# Altium schematic symbol library Schlib1.SchLib: 54 symbols
Pins are listed as number, name and electrical type; pins without a type are passive.

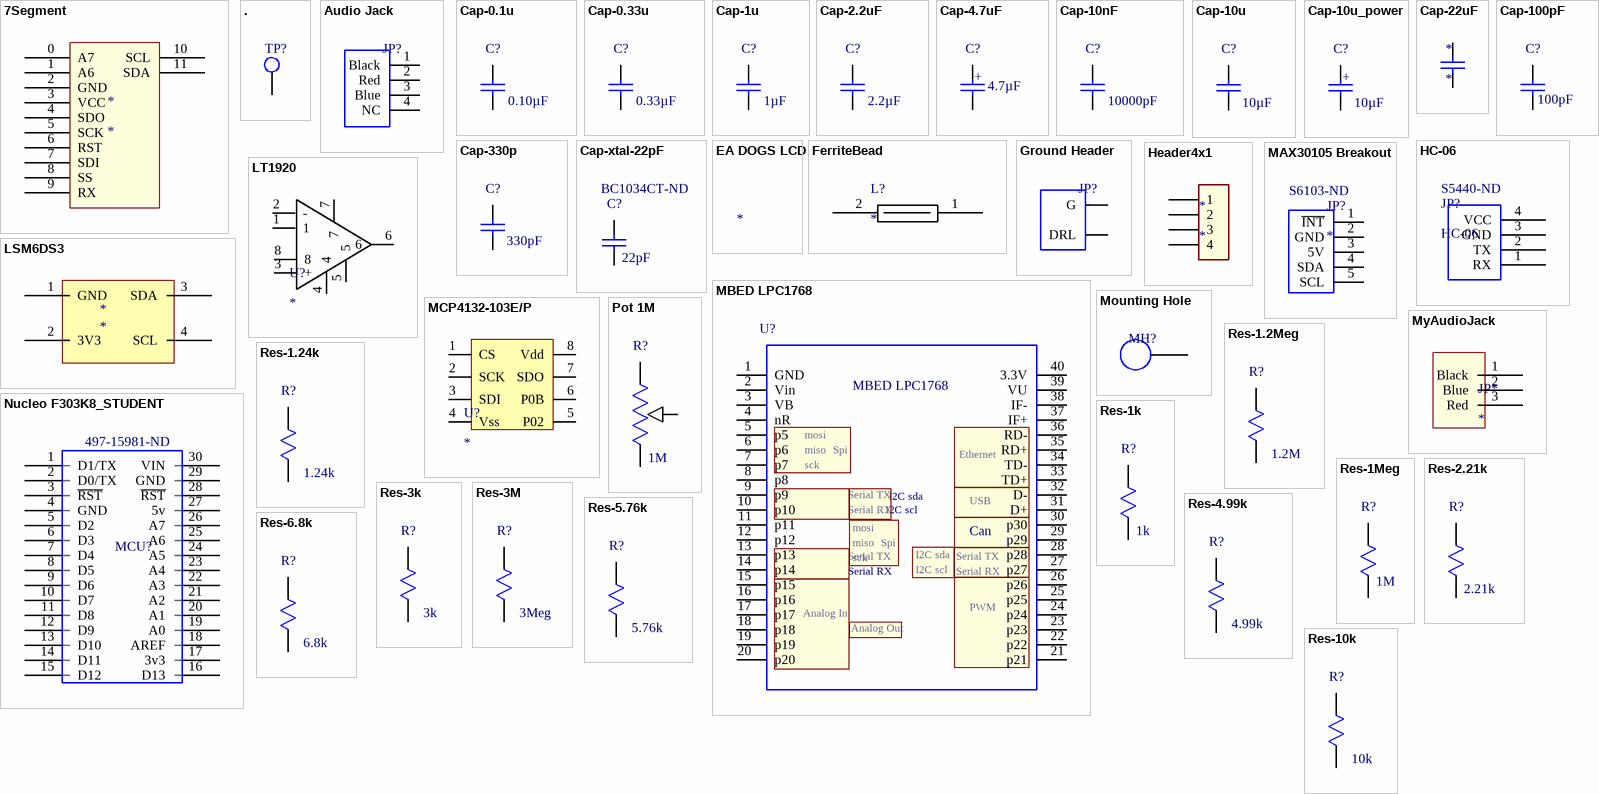
[diagram p0: symbols 7Segment to Res-10k]

## 7Segment
designator *
footprint 7SegmentDisplay
pins: 0 A7, 1 A6, 2 GND, 3 VCC, 4 SDO, 5 SCK, 6 RST, 7 SDI, 8 SS, 9 RX, 10 SCL, 11 SDA

## .
designator TP?  (value not drawn)
Manufacturer: Harwin Inc.; Manufacturer Part Number: S1751-46; Supplier 1: Digi-Key; RoHS: RoHS Compliant; Category: Test and Measurement; Stock 1: 4702; Pricing 1: 1=0.23, 10=0.218, 25=0.1856, 50=0.1624, 100=0.1508, 250=0.1334, 500=0.1276, 1000=0.1044, 2500=0.0957 (USD); Packaging: Bulk; Part Status: Active; Type: PC Test Point; Terminal: 0.128" x 0.065" x 0.079" (3.25mm x 1.65mm x 2.00mm) Brass, Tin Plated; Mounting Type: Surface Mount; Material: Copper Alloy; Color: Natural; ComponentLink1URL: http://cdn.harwin.com/pdfs/S1751.pdf; ComponentLink1Description: http://cdn.harwin.com/pdfs/S1751.pdf; Supplier Part Number 1: 952-3024-ND
footprint TestPoint
pins: 1 TP

## Audio Jack
designator JP?
Manufacturer: CUI Inc.; Manufacturer Part Number: SJ-3524-SMT-TR; Connector Type: Phone Jack; Gender: Female; Signal Lines: Stereo; Industry Recognized Mating Diameter: 3.50mm (0.141", 1/8", Mini Plug) - Headphone; Actual Diameter: 0.142" (3.60mm); Number of Positions/Contacts: 3 Conductors, 4 Contacts; Internal Switch(s): Single Switch; Shielding: Unshielded; Voltage - Rated: 12VDC; Current Rating: 1A; Mating Length/Depth: 0.551" (14.00mm); Body Color: Black; Includes: 1 pc - 1 Connector; Supplier 1: Digi-Key; RoHS: RoHS Compliant; Category: Connectors, Interconnects; Stock 1: 106742; Pricing 1: 1=1.37, 10=1.063, 100=0.811, 500=0.64746 (USD); Packaging: Cut Tape (CT); Mounting Type: Surface Mount, Right Angle; Termination: Solder; Features: Board Guide; Insulation Color: -; Contact Material - Plating: Silver; Body Material: -; ComponentLink1URL: http://www.cui.com/product/resource/digikeypdf/sj-352x-smt_series.pdf; ComponentLink1Description: http://www.cui.com/product/resource/digikeypdf/sj-352x-smt_series.pdf; Supplier Part Number 1: CP-3524SJCT-ND
footprint Audio Jack (2092-STX-3000-ND)
pins: 1 Black, 2 Red, 3 Blue, 4 NC

## Cap-0.1u
designator C?  Capacitance: 0.10µF  (hidden comment: *)
Manufacturer: Vishay BC Components; Manufacturer Part Number: K104Z15Y5VF5TL2; Tolerance: -20%, +80%; Voltage - Rated: 50V; Temperature Coefficient: Y5V (F); Supplier 1: Digi-Key; RoHS: RoHS Compliant; Category: Capacitors; Stock 1: 43995; Pricing 1: 1=0.21, 10=0.147, 50=0.0846, 100=0.0698, 250=0.0588, 500=0.04924, 1000=0.04043 (USD); Packaging: Cut Tape (CT); Mounting Type: Through Hole; Operating Temperature: -30°C ~ 85°C; Applications: General Purpose; Ratings: -; Package / Case: Radial; Size / Dimension: 0.157" L x 0.098" W (4.00mm x 2.50mm); Height - Seated (Max): 0.220" (5.58mm); Thickness (Max): -; Lead Spacing: 0.098" (2.50mm); Features: -; Lead Style: Straight; ComponentLink1URL: http://www.vishay.com/docs/45171/kseries.pdf; ComponentLink1Description: http://www.vishay.com/docs/45171/kseries.pdf; Supplier Part Number 1: BC1160CT-ND
footprint Capacitor (200 mil)
pins: 1, 2

## Cap-0.33u
designator C?  Capacitance: 0.33µF  (hidden comment: *)
Manufacturer: TDK Corporation; Manufacturer Part Number: FK24X7R1H334K; Tolerance: ±10%; Voltage - Rated: 50V; Temperature Coefficient: X7R; Supplier 1: Digi-Key; RoHS: RoHS Compliant; Category: Capacitors; Stock 1: 11085; Pricing 1: 1=0.32, 10=0.223, 100=0.1335, 250=0.11124, 500=0.10012, 1000=0.08455, 5000=0.07565, 10000=0.0712, 25000=0.06675 (USD); Packaging: Bulk; Mounting Type: Through Hole; Operating Temperature: -55°C ~ 125°C; Applications: General Purpose; Ratings: -; Package / Case: Radial; Size / Dimension: 0.217" L x 0.177" W (5.50mm x 4.50mm); Height - Seated (Max): 0.217" (5.50mm); Thickness (Max): -; Lead Spacing: 0.197" (5.00mm); Features: -; Lead Style: Formed Leads - Kinked; ComponentLink1URL: https://product.tdk.com/info/en/documents/catalog/leadmlcc_conventional_fk_en.pdf; ComponentLink1Description: https://product.tdk.com/info/en/documents/catalog/leadmlcc_conventional_fk_en.pdf; Supplier Part Number 1: 445-5263-ND
footprint Capacitor (200 mil)
pins: 1, 2

## Cap-1u
designator C?  Capacitance: 1µF  (hidden comment: *)
Manufacturer: TDK Corporation; Manufacturer Part Number: FK18X5R1E105K; Tolerance: ±10%; Voltage - Rated: 25V; Temperature Coefficient: X5R; Supplier 1: Digi-Key; RoHS: RoHS Compliant; Category: Capacitors; Stock 1: 4927; Pricing 1: 1=0.34, 10=0.233, 100=0.1323, 250=0.10504, 500=0.09336, 1000=0.08169, 5000=0.07197, 10000=0.06808, 25000=0.06224 (USD); Packaging: Bulk; Part Status: Active; Operating Temperature: -55°C ~ 85°C; Features: -; Ratings: -; Applications: General Purpose; Failure Rate: -; Mounting Type: Through Hole; Package / Case: Radial; Size / Dimension: 0.157" L x 0.098" W (4.00mm x 2.50mm); Height - Seated (Max): 0.217" (5.50mm); Thickness (Max): -; Lead Spacing: 0.098" (2.50mm); Lead Style: Formed Leads - Kinked; ComponentLink1URL: https://product.tdk.com/info/en/documents/catalog/leadmlcc_conventional_fk_en.pdf; ComponentLink1Description: https://product.tdk.com/info/en/documents/catalog/leadmlcc_conventional_fk_en.pdf; Supplier Part Number 1: 445-8410-ND
footprint Capacitor (200 mil)
pins: 1, 2

## Cap-2.2uF
designator C?  Capacitance: 2.2µF  (hidden comment: *)
Manufacturer: TDK Corporation; Manufacturer Part Number: FK20X7R2A225K; Tolerance: ±10%; Voltage - Rated: 100V; Temperature Coefficient: X7R; Supplier 1: Digi-Key; RoHS: RoHS Compliant; Category: Capacitors; Stock 1: 11645; Pricing 1: 1=0.95, 10=0.722, 100=0.5168, 250=0.46684, 500=0.40014, 1000=0.34457, 5000=0.30566, 10000=0.29455, 25000=0.28343 (USD); Packaging: Bulk; Mounting Type: Through Hole; Operating Temperature: -55°C ~ 125°C; Applications: General Purpose; Ratings: -; Package / Case: Radial; Size / Dimension: 0.217" L x 0.157" W (5.50mm x 4.00mm); Height - Seated (Max): 0.276" (7.00mm); Thickness (Max): -; Lead Spacing: 0.197" (5.00mm); Features: -; Lead Style: Formed Leads - Kinked; ComponentLink1URL: https://product.tdk.com/info/en/documents/catalog/leadmlcc_conventional_fk_en.pdf; ComponentLink1Description: https://product.tdk.com/info/en/documents/catalog/leadmlcc_conventional_fk_en.pdf; Supplier Part Number 1: 445-8463-ND
footprint Capacitor (200 mil)
pins: 1, 2

## Cap-4.7uF
designator C?  Capacitance: 4.7µF  (hidden comment: *)
Manufacturer: AVX Corporation; Manufacturer Part Number: TAP475K016SRW; Manufacturer Size Code: B; Tolerance: ±10%; Voltage - Rated: 16V; Type: Conformal Coated; ESR (Equivalent Series Resistance): 5 Ohm; Lifetime @ Temp.: 1000 Hrs @ 85°C; Supplier 1: Digi-Key; RoHS: RoHS Compliant; Category: Capacitors; Stock 1: 953; Pricing 1: 1=0.73, 10=0.54, 25=0.4628, 50=0.4318, 100=0.3701, 250=0.33928, 500=0.29302 (USD); Packaging: Cut Tape (CT); Part Status: Active; Operating Temperature: -55°C ~ 125°C; Mounting Type: Through Hole; Package / Case: Radial; Size / Dimension: 0.177" Dia (4.50mm); Height - Seated (Max): 0.295" (7.50mm); Lead Spacing: 0.098" (2.50mm); Features: General Purpose; Failure Rate: -; ComponentLink1URL: http://datasheets.avx.com/tap.pdf; ComponentLink1Description: http://datasheets.avx.com/tap.pdf; Supplier Part Number 1: 478-7381-1-ND
footprint Capacitor - Polarized (200 mil)
pins: 1, 2
text: +

## Cap-10nF
designator C?  Capacitance: 10000pF  (hidden comment: *)
Manufacturer: KEMET; Manufacturer Part Number: C317C103K5R5TA; Tolerance: ±10%; Voltage - Rated: 50V; Temperature Coefficient: X7R; Supplier 1: Digi-Key; Supplier Part Number 1: 399-4206-ND; RoHS: RoHS Compliant; Category: Capacitors; Stock 1: 23003; Pricing 1: 1=0.24, 10=0.162, 25=0.1296, 50=0.108, 100=0.0918, 250=0.07292, 500=0.0648, 1000=0.0567, 5000=0.04995 (USD); Packaging: Bulk; Part Status: Active; Operating Temperature: -55°C ~ 125°C; Features: -; Ratings: -; Applications: General Purpose; Failure Rate: -; Mounting Type: Through Hole; Package / Case: Radial; Size / Dimension: 0.150" L x 0.120" W (3.81mm x 3.05mm); Height - Seated (Max): 0.230" (5.84mm); Thickness (Max): -; Lead Spacing: 0.200" (5.08mm); Lead Style: Formed Leads; ComponentLink1URL: http://www.kemet.com/docfinder?Partnumber=C317C103K5R5TA; ComponentLink1Description: http://www.kemet.com/docfinder?Partnumber=C317C103K5R5TA
footprint Capacitor (200 mil)
pins: 1, 2

## Cap-10u
designator C?  Capacitance: 10µF  (hidden comment: *)
Manufacturer: TDK Corporation; Manufacturer Part Number: FK26X7R1C106K; Tolerance: ±10%; Voltage - Rated: 16V; Temperature Coefficient: X7R; Supplier 1: Digi-Key; RoHS: RoHS Compliant; Category: Capacitors; Stock 1: 7933; Pricing 1: 1=0.45, 10=0.319, 100=0.2101, 250=0.17896, 500=0.1556, 1000=0.13226, 5000=0.1167, 10000=0.10892, 25000=0.10503 (USD); Packaging: Bulk; Mounting Type: Through Hole; Operating Temperature: -55°C ~ 125°C; Applications: General Purpose; Ratings: -; Package / Case: Radial; Size / Dimension: 0.217" L x 0.138" W (5.50mm x 3.50mm); Height - Seated (Max): 0.236" (6.00mm); Thickness (Max): -; Lead Spacing: 0.197" (5.00mm); Features: -; Lead Style: Formed Leads - Kinked; ComponentLink1URL: https://product.tdk.com/info/en/documents/catalog/leadmlcc_conventional_fk_en.pdf; ComponentLink1Description: https://product.tdk.com/info/en/documents/catalog/leadmlcc_conventional_fk_en.pdf; Supplier Part Number 1: 445-8549-ND
footprint Capacitor (200 mil)
pins: 1, 2

## Cap-10u_power
designator C?  Capacitance: 10µF  (hidden comment: *)
Manufacturer: TDK Corporation; Manufacturer Part Number: FK26X7R1C106K; Manufacturer Size Code: D; Tolerance: ±10%; Voltage - Rated: 16V; Temperature Coefficient: X7R; ESR (Equivalent Series Resistance): 3.2 Ohm; Type: Conformal Coated; Lifetime @ Temp.: 1000 Hrs @ 85°C; RoHS: RoHS Compliant; Category: Capacitors; Packaging: Bulk; Mounting Type: Through Hole; Operating Temperature: -55°C ~ 125°C; Applications: General Purpose; Ratings: -; Package / Case: Radial; Size / Dimension: 0.217" L x 0.138" W (5.50mm x 3.50mm); Height - Seated (Max): 0.236" (6.00mm); Thickness (Max): -; Lead Spacing: 0.197" (5.00mm); Features: -; Lead Style: Formed Leads - Kinked; ComponentLink1URL: https://product.tdk.com/info/en/documents/catalog/leadmlcc_conventional_fk_en.pdf; ComponentLink1Description: https://product.tdk.com/info/en/documents/catalog/leadmlcc_conventional_fk_en.pdf; Supplier 1: Digi-Key; Stock 1: 3748; Pricing 1: 1=1.07, 10=0.893, 100=0.57, 250=0.475, 500=0.4275 (USD); ComponentLink2URL: http://datasheets.avx.com/tap.pdf; ComponentLink2Description: http://datasheets.avx.com/tap.pdf; Supplier Part Number 1: 478-8959-1-ND
footprint Capacitor - Polarized (200 mil)
pins: 1, 2
text: +

## Cap-22uF
designator *
footprint Capacitor - Polarized (200 mil)
pins: 1, 2

## Cap-100pF
designator C?  (value not drawn)
Supplier 1: Digi-Key
footprint Capacitor (200 mil)
pins: 1, 2
text: 100pF

## Cap-330p
designator C?  Capacitance: 330pF  (hidden comment: *)
Manufacturer: Vishay BC Components; Manufacturer Part Number: K331J15C0GF5TL2; Tolerance: ±5%; Voltage - Rated: 50V; Temperature Coefficient: C0G, NP0; Supplier 1: Digi-Key; RoHS: RoHS Compliant; Category: Capacitors; Stock 1: 24510; Pricing 1: 1=0.24, 10=0.2, 50=0.1126, 100=0.1, 250=0.075, 500=0.06626, 1000=0.05875 (USD); Packaging: Cut Tape (CT); Mounting Type: Through Hole; Operating Temperature: -55°C ~ 125°C; Applications: General Purpose; Ratings: -; Package / Case: Radial; Size / Dimension: 0.157" L x 0.098" W (4.00mm x 2.50mm); Height - Seated (Max): 0.220" (5.58mm); Thickness (Max): -; Lead Spacing: 0.098" (2.50mm); Features: -; Lead Style: Straight; ComponentLink1URL: http://www.vishay.com/docs/45171/kseries.pdf; ComponentLink1Description: http://www.vishay.com/docs/45171/kseries.pdf; Supplier Part Number 1: BC1019CT-ND
footprint Capacitor (200 mil)
pins: 1, 2

## Cap-xtal-22pF
designator C?  Capacitor: 22pF  Supplier Part Number 1: BC1034CT-ND  (hidden comment: *)
Manufacturer: Vishay BC Components; Manufacturer Part Number: K220J15C0GF5TH5; Tolerance: ±5%; Voltage - Rated: 50V; Temperature Coefficient: C0G, NP0; Supplier 1: Digi-Key; RoHS: RoHS Compliant; Category: Capacitors; Stock 1: 18988; Pricing 1: 1=0.2, 10=0.139, 50=0.084, 100=0.0706, 250=0.05712, 500=0.0504, 1000=0.04284 (USD); Packaging: Cut Tape (CT); Capacitance: 22pF; Mounting Type: Through Hole; Operating Temperature: -55°C ~ 125°C; Applications: General Purpose; Ratings: -; Package / Case: Radial; Size / Dimension: 0.157" L x 0.098" W (4.00mm x 2.50mm); Height - Seated (Max): 0.257" (6.54mm); Thickness (Max): -; Lead Spacing: 0.197" (5.00mm); Features: -; Lead Style: Formed Leads; ComponentLink1URL: http://www.vishay.com/docs/45171/kseries.pdf; ComponentLink1Description: http://www.vishay.com/docs/45171/kseries.pdf
footprint Capacitor (200 mil)
pins: 1, 2

## EA DOGS LCD
designator ?
footprint EA DOGS102-6

## FerriteBead
designator L?
Manufacturer: Laird-Signal Integrity Products; Manufacturer Part Number: 28L0138-10R-10; Number of Lines: 1; Impedance @ Frequency: 75 Ohm @ 100MHz; Current Rating (Max): 5A; DC Resistance (DCR) (Max): 10 mOhm; Supplier 1: Digi-Key; RoHS: RoHS Compliant; Category: Filters; Stock 1: 25546; Pricing 1: 1=0.1, 10=0.076, 25=0.0684, 50=0.05, 100=0.0433, 250=0.03416, 500=0.02884, 1000=0.02429 (USD); Packaging: Cut Tape (CT); Part Status: Active; Filter Type: -; Ratings: -; Operating Temperature: -; Package / Case: Axial; Mounting Type: Through Hole; Height (Max): -; Size / Dimension: 0.138" Dia x 0.175" L (3.51mm x 4.45mm); ComponentLink1URL: http://media.digikey.com/pdf/Data%20Sheets/Laird%20Technologies/28L0138-10R-10_Dwg.pdf; ComponentLink1Description: http://media.digikey.com/pdf/Data%20Sheets/Laird%20Technologies/28L0138-10R-10_Dwg.pdf; Supplier Part Number 1: 240-2438-1-ND
footprint RESISTOR
pins: 1, 2

## Ground Header
designator JP?  (value not drawn)
Manufacturer: On Shore Technology Inc.; Manufacturer Part Number: OSTTE020104; Number of Levels: 1; Positions Per Level: 2; Pitch: 0.138" (3.50mm); Mating Orientation: Horizontal with Board; Current: 10A; Voltage: 125V; Wire Gauge: 16-26 AWG; Wire Termination: Screw - Leaf Spring, Wire Guard; Clamp Material - Plating: Steel, Stainless; Screw Material - Plating: Steel - Zinc Plated; Torque - Screw: 0.2 Nm (1.7 Lb-In); Screw Thread: M2; Supplier 1: Digi-Key; RoHS: RoHS Compliant; Category: Connectors, Interconnects; Stock 1: 21385; Pricing 1: 1=0.38, 10=0.364, 25=0.312, 50=0.2652, 100=0.2548, 250=0.2288, 500=0.2184, 1000=0.182, 2500=0.1664 (USD); Packaging: Bulk; Part Status: Active; Mounting Type: Through Hole; Features: Interlocking (Side); Color: Black; Operating Temperature: -30°C ~ 105°C; Housing Material: Thermoplastic; Contact Material - Plating: Tin Plated; ComponentLink1URL: http://www.on-shore.com/wp-content/uploads/2015/09/osttexx0164.pdf; ComponentLink1Description: http://www.on-shore.com/wp-content/uploads/2015/09/osttexx0164.pdf; Supplier Part Number 1: ED2740-ND
footprint Ground Header
pins: 1 G, 2 DRL

## HC-06
designator JP?  Supplier Part Number 1: S5440-ND
Manufacturer: Sullins Connector Solutions; Manufacturer Part Number: PPTC041LGBN-RC; Connector Type: Header; Style: Board to Board; Number of Positions: 4; Number of Positions Loaded: All; Pitch - Mating: 0.100" (2.54mm); Contact Length - Post: 0.124" (3.15mm); Material Flammability Rating: UL94 V-0; Current Rating: 3A; Voltage Rating: 250V; Supplier 1: Digi-Key; RoHS: RoHS Compliant; Category: Connectors, Interconnects; Stock 1: 9482; Pricing 1: 1=0.73, 10=0.569, 25=0.5308, 50=0.4826, 100=0.4343, 250=0.36672, 500=0.3474, 1000=0.3088, 2500=0.25669 (USD); Packaging: Bulk; Part Status: Active; Contact Type: Female Socket; Number of Rows: 1; Row Spacing - Mating: -; Mounting Type: Through Hole, Right Angle; Termination: Solder; Fastening Type: Push-Pull; Contact Finish - Mating: Tin; Contact Finish Thickness - Mating: -; Insulation Color: Black; Insulation Height: 0.100" (2.54mm); Operating Temperature: -40°C ~ 105°C; Contact Finish - Post: Tin; Mated Stacking Heights: -; Ingress Protection: -; Features: -; Applications: -; Insulation Material: Polyester; Contact Shape: Square; Contact Material: Phosphor Bronze; Contact Finish Thickness - Post: -; ComponentLink1URL: http://www.sullinscorp.com/drawings/78_P(N)PxCxx1LGBN-RC,_10493-G.pdf; ComponentLink1Description: http://www.sullinscorp.com/drawings/78_P(N)PxCxx1LGBN-RC,_10493-G.pdf
footprint 4 pin header
pins: 1 RX, 2 TX, 3 GND, 4 VCC

## Header4x1
designator *
footprint 4 pin header
pins: 1, 2, 3, 4

## LSM6DS3
designator *
pins: 1 GND, 2 3V3, 3 SDA, 4 SCL

## LT1920
designator U?
Supplier 1: Digi-Key; Supplier Part Number 1: LT1920CN8#PBF-ND
footprint DIP8
pins: 1, 2 -, 3 +, 4, 5, 6, 7, 8

## MAX30105 Breakout
designator JP?  Supplier Part Number 1: S6103-ND
Manufacturer: Sullins Connector Solutions; Manufacturer Part Number: PPTC051LFBN-RC; Connector Type: Header; Style: Board to Board; Number of Positions: 5; Number of Positions Loaded: All; Pitch - Mating: 0.100" (2.54mm); Contact Length - Post: 0.126" (3.20mm); Material Flammability Rating: UL94 V-0; Current Rating: 3A; Voltage Rating: 250V; Supplier 1: Digi-Key; RoHS: RoHS Compliant; Category: Connectors, Interconnects; Stock 1: 12778; Pricing 1: 1=0.62, 10=0.484, 25=0.4512, 50=0.41, 100=0.369, 250=0.3116, 500=0.2952, 1000=0.2624, 2500=0.21812 (USD); Packaging: Bulk; Part Status: Active; Contact Type: Female Socket; Number of Rows: 1; Row Spacing - Mating: -; Mounting Type: Through Hole; Termination: Solder; Fastening Type: Push-Pull; Contact Finish - Mating: Tin; Contact Finish Thickness - Mating: -; Insulation Color: Black; Insulation Height: 0.335" (8.51mm); Operating Temperature: -40°C ~ 105°C; Contact Finish - Post: Tin; Mated Stacking Heights: -; Ingress Protection: -; Features: -; Applications: -; Insulation Material: Polyester; Contact Shape: Square; Contact Material: Phosphor Bronze; Contact Finish Thickness - Post: -; ComponentLink1URL: http://www.sullinscorp.com/drawings/78_P(N)PxCxxxLFBN-RC,_10492-H.pdf; ComponentLink1Description: http://www.sullinscorp.com/drawings/78_P(N)PxCxxxLFBN-RC,_10492-H.pdf
footprint 5 pin header
pins: 1 ~{INT}, 2 GND, 3 5V, 4 SDA, 5 SCL

## MBED LPC1768
designator U?  (value not drawn)
footprint MBED LPC1768
pins: 1 GND, 2 Vin, 3 VB, 4 nR, 5 p5, 6 p6, 7 p7, 8 p8, 9 p9, 10 p10, 11 p11, 12 p12, 13 p13, 14 p14, 15 p15, 16 p16, 17 p17, 18 p18, 19 p19, 20 p20, 21 p21, 22 p22, 23 p23, 24 p24, 25 p25, 26 p26, 27 p27, 28 p28, 29 p29, 30 p30, 31 D+, 32 D-, 33 TD+, 34 TD-, 35 RD+, 36 RD-, 37 IF+, 38 IF-, 39 VU, 40 3.3V
text: mosi; miso; Spi; Ethernet; sck; Serial TX; I2C sda; USB; Serial RX; I2C scl; Can; PWM; Analog In; Analog Out

## MCP4132-103E/P
designator U?
Digital Pot
footprint DIP8
pins: 1 CS, 2 SCK, 3 SDI, 4 Vss, 5 P02, 6 P0B, 7 SDO, 8 Vdd

## Mounting Hole
designator MH?  (value not drawn)
footprint Mounting Hole
pins: 1

## MyAudioJack
designator JP*
pins: 1 Black, 2 Blue, 3 Red

## Nucleo F303K8_STUDENT
designator MCU?  Supplier Part Number 1: 497-15981-ND
Nucleo F303K8; Manufacturer: Sullins Connector Solutions; Manufacturer Part Number: PPTC151LFBN-RC; Connector Type: Header; Style: Board to Board; Number of Positions: 15; Number of Positions Loaded: All; Pitch - Mating: 0.100" (2.54mm); Contact Length - Post: 0.126" (3.20mm); Material Flammability Rating: UL94 V-0; Current Rating: 3A; Voltage Rating: 250V; Evaluation Kit: Yes; Number of Bits: 32; Core Architecture: ARM; RoHS: RoHS Compliant; Category: Connectors, Interconnects; Packaging: Bulk; Part Status: Active; Contact Type: Female Socket; Number of Rows: 1; Row Spacing - Mating: -; Mounting Type: Through Hole; Termination: Solder; Fastening Type: Push-Pull; Contact Finish - Mating: Tin; Contact Finish Thickness - Mating: -; Insulation Color: Black; Insulation Height: 0.335" (8.51mm); Operating Temperature: -40°C ~ 105°C; Contact Finish - Post: Tin; Mated Stacking Heights: -; Ingress Protection: -; Features: -; Applications: -; Insulation Material: Polyester; Contact Shape: Square; Contact Material: Phosphor Bronze; Contact Finish Thickness - Post: -; ComponentLink1URL: http://www.sullinscorp.com/drawings/78_P(N)PxCxxxLFBN-RC,_10492-H.pdf; ComponentLink1Description: http://www.sullinscorp.com/drawings/78_P(N)PxCxxxLFBN-RC,_10492-H.pdf; REACH SVHC: No SVHC; Lead Free: Lead Free; Supplier 1: Digi-Key; Stock 1: 117; Pricing 1: 1=10.99000 (USD); ComponentLink2URL: http://www.farnell.com/datasheets/2064195.pdf?src-supplier=Farnell; ComponentLink2Description: http://www.farnell.com/datasheets/2064195.pdf?src-supplier=Farnell; ComponentLink3URL: http://www.st.com/content/ccc/resource/technical/document/data_brief/b1/d8/13/d4/b0/b7/4b/6e/DM00214578.pdf/files/DM00214578.pdf/jcr:content/translations/en.DM00214578.pdf?src-supplier=Digi-Key; ComponentLink3Description: http://www.st.com/content/ccc/resource/technical/document/data_brief/b1/d8/13/d4/b0/b7/4b/6e/DM00214578.pdf/files/DM00214578.pdf/jcr:content/translations/en.DM00214578.pdf?src-supplier=Digi-Key; ComponentLink4URL: http://www.farnell.com/datasheets/1966773.pdf?src-supplier=Element14; ComponentLink4Description: http://www.farnell.com/datasheets/1966773.pdf?src-supplier=Element14; ComponentLink5URL: http://www.farnell.com/datasheets/2064195.pdf?src-supplier=Newark; ComponentLink5Description: http://www.farnell.com/datasheets/2064195.pdf?src-supplier=Newark; ComponentLink6URL: http://www.st.com/st-web-ui/static/active/en/resource/technical/document/user_manual/DM00116575.pdf?s_searchtype=keyword&src-supplier=Avnet+Asia; ComponentLink6Description: http://www.st.com/st-web-ui/static/active/en/resource/technical/document/user_manual/DM00116575.pdf?s_searchtype=keyword&src-supplier=Avnet+Asia; ComponentLink7URL: http://www.st.com/st-web-ui/static/active/en/resource/technical/document/user_manual/DM00116575.pdf?s_searchtype=keyword&src-supplier=Avnet; ComponentLink7Description: http://www.st.com/st-web-ui/static/active/en/resource/technical/document/user_manual/DM00116575.pdf?s_searchtype=keyword&src-supplier=Avnet
footprint Nucleo F303K8
footprint DIP8
pins: 1 D1/TX, 2 D0/TX, 3 ~{RST}, 4 GND, 5 D2, 6 D3, 7 D4, 8 D5, 9 D6, 10 D7, 11 D8, 12 D9, 13 D10, 14 D11, 15 D12, 16 D13, 17 3v3, 18 AREF, 19 A0, 20 A1, 21 A2, 22 A3, 23 A4, 24 A5, 25 A6, 26 A7, 27 5v, 28 ~{RST}, 29 GND, 30 VIN

## Pot 1M
designator R?  Resistance (Ohms): 1M  (hidden comment: *)
Manufacturer: Bourns Inc.; Manufacturer Part Number: 3306F-1-105; Power (Watts): 0.2W, 1/5W; Tolerance: ±25%; Temperature Coefficient: ±250ppm/°C; Number of Turns: 1; Adjustment Type: Top Adjustment; Resistive Material: Cermet; Supplier 1: Digi-Key; RoHS: RoHS Compliant; Category: Potentiometers, Variable Resistors; Stock 1: 811; Pricing 1: 1=0.43, 10=0.4, 25=0.36, 50=0.348, 100=0.336, 250=0.312, 500=0.288, 1000=0.27, 5000=0.204 (USD); Packaging: Bulk; Part Status: Active; Mounting Type: Through Hole; Termination Style: PC Pins; Size / Dimension: Rectangular - 0.319" x 0.268" Face x 0.300" H (8.10mm x 6.81mm x 7.62mm); ComponentLink1URL: http://www.bourns.com/docs/Product-Datasheets/3306.pdf; ComponentLink1Description: http://www.bourns.com/docs/Product-Datasheets/3306.pdf; Supplier Part Number 1: 3306F-105-ND
footprint Pot 1M
pins: 1, 2, 3

## Res-1.2Meg
designator R?  Resistance (Ohms): 1.2M  (hidden comment: *)
Manufacturer: Yageo; Manufacturer Part Number: CFR-25JB-52-1M2; Tolerance: ±5%; Power (Watts): 0.25W, 1/4W; Temperature Coefficient: -1500ppm/°C; Supplier 1: Digi-Key; RoHS: RoHS Compliant; Category: Resistors; Stock 1: 20098; Pricing 1: 1=0.1, 10=0.061, 25=0.044, 100=0.0247, 250=0.0188, 500=0.01504, 1000=0.01108, 2500=0.00962, 5000=0.00794 (USD); Packaging: Bulk; Composition: Carbon Film; Features: -; Operating Temperature: -55°C ~ 155°C; Package / Case: Axial; Supplier Device Package: Axial; Size / Dimension: 0.094" Dia x 0.248" L (2.40mm x 6.30mm); Height: -; Number of Terminations: 2; ComponentLink1URL: http://www.yageo.com/documents/recent/Yageo%20LR_CFR_2013.pdf; ComponentLink1Description: http://www.yageo.com/documents/recent/Yageo%20LR_CFR_2013.pdf; Supplier Part Number 1: 1.2MQBK-ND
footprint RESISTOR
pins: 1, 2

## Res-1.24k
designator R?  Resistance (Ohms): 1.24k  (hidden comment: *)
Manufacturer: Yageo; Manufacturer Part Number: MFR-25FBF52-1K24; Tolerance: ±1%; Power (Watts): 0.25W, 1/4W; Temperature Coefficient: ±100ppm/°C; Supplier 1: Digi-Key; RoHS: RoHS Compliant; Category: Resistors; Stock 1: 9305; Pricing 1: 1=0.1, 10=0.084, 25=0.058, 100=0.0322, 250=0.02508, 500=0.01994, 1000=0.01415, 2500=0.01222, 5000=0.01093 (USD); Packaging: Bulk; Composition: Metal Film; Features: -; Operating Temperature: -55°C ~ 155°C; Package / Case: Axial; Supplier Device Package: Axial; Size / Dimension: 0.094" Dia x 0.248" L (2.40mm x 6.30mm); Height: -; Number of Terminations: 2; ComponentLink1URL: http://www.yageo.com/documents/recent/Yageo%20LR_MFR_2013.pdf; ComponentLink1Description: http://www.yageo.com/documents/recent/Yageo%20LR_MFR_2013.pdf; Supplier Part Number 1: 1.24KXBK-ND
footprint RESISTOR
pins: 1, 2

## Res-1k
designator R?  Resistance: 1k  (hidden comment: *)
Supplier 1: Digi-Key; Supplier Part Number 1: CF14JT1K00CT-ND
footprint RESISTOR
pins: 1, 2

## Res-1Meg
designator R?  Resistance (Ohm): 1M  (hidden comment: *)
Manufacturer: TE Connectivity AMP Connectors; Manufacturer Part Number: LR1F1M0; Tolerance: ±1%; Power (Watts): 0.6W; Temperature Coefficient: ±50ppm/°C; Supplier 1: Digi-Key; RoHS: RoHS Compliant; Category: Resistors; Stock 1: 19610; Pricing 1: 1=0.13, 10=0.118, 25=0.0816, 50=0.0634, 100=0.0453, 250=0.03536, 500=0.0281, 1000=0.01994 (USD); Packaging: Cut Tape (CT); Part Status: Active; Resistance (Ohms): 1M; Composition: Metal Film; Features: -; Operating Temperature: -55°C ~ 155°C; Package / Case: Axial; Supplier Device Package: Axial; Size / Dimension: 0.091" Dia x 0.244" L (2.30mm x 6.20mm); Height: -; Number of Terminations: 2; Failure Rate: -; ComponentLink1URL: http://www.te.com/commerce/DocumentDelivery/DDEController?Action=srchrtrv&DocNm=1773241&DocType=DS&DocLang=English; ComponentLink1Description: http://www.te.com/commerce/DocumentDelivery/DDEController?Action=srchrtrv&DocNm=1773241&DocType=DS&DocLang=English; Supplier Part Number 1: A105954CT-ND
footprint RESISTOR
pins: 1, 2

## Res-2.21k
designator R?  Resistance (Ohms): 2.21k  (hidden comment: *)
Manufacturer: Stackpole Electronics Inc.; Manufacturer Part Number: RNF14FTD2K21; Tolerance: ±1%; Power (Watts): 0.25W, 1/4W; Temperature Coefficient: ±100ppm/°C; Supplier 1: Digi-Key; RoHS: RoHS Compliant; Category: Resistors; Stock 1: 19505; Pricing 1: 1=0.1, 10=0.072, 25=0.0496, 50=0.0386, 100=0.0275, 250=0.02144, 500=0.01706, 1000=0.0121 (USD); Packaging: Cut Tape (CT); Part Status: Active; Composition: Metal Film; Features: Flame Retardant Coating, Safety; Operating Temperature: -55°C ~ 155°C; Package / Case: Axial; Supplier Device Package: Axial; Size / Dimension: 0.093" Dia x 0.250" L (2.35mm x 6.35mm); Height - Seated (Max): -; Failure Rate: -; ComponentLink1URL: http://www.seielect.com/Catalog/SEI-RNF_RNMF.pdf; ComponentLink1Description: http://www.seielect.com/Catalog/SEI-RNF_RNMF.pdf; Supplier Part Number 1: RNF14FTD2K21CT-ND
footprint RESISTOR
pins: 1, 2

## Res-3k
designator R?  Resistance (Ohms): 3k  (hidden comment: *)
Manufacturer: Stackpole Electronics Inc.; Manufacturer Part Number: RNMF14FTC3K00; Tolerance: ±1%; Power (Watts): 0.25W, 1/4W; Temperature Coefficient: ±50ppm/°C; Supplier 1: Digi-Key; RoHS: RoHS Compliant; Category: Resistors; Stock 1: 31463; Pricing 1: 1=0.1, 10=0.072, 50=0.0396, 100=0.0292, 250=0.02228, 500=0.01782, 1000=0.01312, 2500=0.01138 (USD); Packaging: Cut Tape (CT); Composition: Metal Film; Features: Flame Retardant Coating, Safety; Operating Temperature: -55°C ~ 155°C; Package / Case: Axial; Supplier Device Package: Axial; Size / Dimension: 0.070" Dia x 0.130" L (1.78mm x 3.30mm); Height: -; Number of Terminations: 2; ComponentLink1URL: http://www.seielect.com/Catalog/SEI-RNF_RNMF.pdf; ComponentLink1Description: http://www.seielect.com/Catalog/SEI-RNF_RNMF.pdf; Supplier Part Number 1: S3KCACT-ND
footprint RESISTOR
pins: 1, 2

## Res-3M
designator R?  Resistance (Ohms): 3Meg  (hidden comment: *)
Manufacturer: Stackpole Electronics Inc.; Manufacturer Part Number: CF14JT30K0; Tolerance: ±5%; Power (Watts): 0.25W, 1/4W; Temperature Coefficient: 0/ -500ppm/°C; RoHS: RoHS Compliant; Category: Resistors; Packaging: Cut Tape (CT); Part Status: Active; Composition: Carbon Film; Features: Flame Retardant Coating, Safety; Operating Temperature: -55°C ~ 155°C; Package / Case: Axial; Supplier Device Package: Axial; Size / Dimension: 0.091" Dia x 0.236" L (2.30mm x 6.00mm); Height - Seated (Max): -; Failure Rate: -; ComponentLink1URL: https://www.seielect.com/Catalog/SEI-CF_CFM.pdf; ComponentLink1Description: https://www.seielect.com/Catalog/SEI-CF_CFM.pdf; Supplier 1: Arrow
footprint RESISTOR
pins: 1, 2

## Res-4.99k
designator R?  Resistance (Ohms): 4.99k  (hidden comment: *)
Manufacturer: Stackpole Electronics Inc.; Manufacturer Part Number: RNF14FTD4K99; Tolerance: ±1%; Power (Watts): 0.25W, 1/4W; Temperature Coefficient: ±100ppm/°C; Supplier 1: Digi-Key; RoHS: RoHS Compliant; Category: Resistors; Stock 1: 57239; Pricing 1: 1=0.1, 10=0.072, 50=0.0386, 100=0.0275, 250=0.02144, 500=0.01706, 1000=0.0121, 2500=0.01045 (USD); Packaging: Cut Tape (CT); Composition: Metal Film; Features: Flame Retardant Coating, Safety; Operating Temperature: -55°C ~ 155°C; Package / Case: Axial; Supplier Device Package: Axial; Size / Dimension: 0.093" Dia x 0.250" L (2.35mm x 6.35mm); Height: -; Number of Terminations: 2; ComponentLink1URL: http://www.seielect.com/Catalog/SEI-RNF_RNMF.pdf; ComponentLink1Description: http://www.seielect.com/Catalog/SEI-RNF_RNMF.pdf; Supplier Part Number 1: RNF14FTD4K99CT-ND
footprint RESISTOR
pins: 1, 2

## Res-5.76k
designator R?  Resistance (Ohms): 5.76k  (hidden comment: *)
Manufacturer: Yageo; Manufacturer Part Number: MFR-25FBF52-5K76; Tolerance: ±1%; Power (Watts): 0.25W, 1/4W; Temperature Coefficient: ±100ppm/°C; Supplier 1: Digi-Key; RoHS: RoHS Compliant; Category: Resistors; Stock 1: 8095; Pricing 1: 1=0.1, 10=0.084, 25=0.058, 100=0.0322, 250=0.02508, 500=0.01994, 1000=0.01415, 2500=0.01222, 5000=0.01093 (USD); Packaging: Bulk; Composition: Metal Film; Features: -; Operating Temperature: -55°C ~ 155°C; Package / Case: Axial; Supplier Device Package: Axial; Size / Dimension: 0.094" Dia x 0.248" L (2.40mm x 6.30mm); Height: -; Number of Terminations: 2; ComponentLink1URL: http://www.yageo.com/documents/recent/Yageo%20LR_MFR_2013.pdf; ComponentLink1Description: http://www.yageo.com/documents/recent/Yageo%20LR_MFR_2013.pdf; Supplier Part Number 1: 5.76KXBK-ND
footprint RESISTOR
pins: 1, 2

## Res-6.8k
designator R?  Resistance (Ohms): 6.8k  (hidden comment: *)
Manufacturer: Stackpole Electronics Inc.; Manufacturer Part Number: CF14JT6K80; Tolerance: ±5%; Power (Watts): 0.25W, 1/4W; Temperature Coefficient: 0/ -400ppm/°C; Supplier 1: Digi-Key; RoHS: RoHS Compliant; Category: Resistors; Stock 1: 53760; Pricing 1: 1=0.1, 10=0.04, 50=0.022, 100=0.0162, 250=0.01236, 500=0.0099, 1000=0.00729, 2500=0.00632 (USD); Packaging: Cut Tape (CT); Composition: Carbon Film; Features: Flame Retardant Coating, Safety; Operating Temperature: -55°C ~ 155°C; Package / Case: Axial; Supplier Device Package: Axial; Size / Dimension: 0.091" Dia x 0.256" L (2.30mm x 6.50mm); Height: -; Number of Terminations: 2; ComponentLink1URL: http://www.seielect.com/catalog/SEI-CF_CFM.pdf; ComponentLink1Description: http://www.seielect.com/catalog/SEI-CF_CFM.pdf; Supplier Part Number 1: CF14JT6K80CT-ND
footprint RESISTOR
pins: 1, 2

## Res-10k
designator R?  Resistance (Ohms): 10k  (hidden comment: *)
Manufacturer: Stackpole Electronics Inc.; Manufacturer Part Number: CF14JT10K0; Tolerance: ±5%; Power (Watts): 0.25W, 1/4W; Temperature Coefficient: 0/ -500ppm/°C; Supplier 1: Digi-Key; RoHS: RoHS Compliant; Category: Resistors; Stock 1: 1509635; Pricing 1: 1=0.1, 10=0.04, 50=0.022, 100=0.0162, 250=0.01236, 500=0.0099, 1000=0.00729, 2500=0.00632 (USD); Packaging: Cut Tape (CT); Composition: Carbon Film; Features: Flame Retardant Coating, Safety; Operating Temperature: -55°C ~ 155°C; Package / Case: Axial; Supplier Device Package: Axial; Size / Dimension: 0.091" Dia x 0.256" L (2.30mm x 6.50mm); Height: -; Number of Terminations: 2; ComponentLink1URL: http://www.seielect.com/catalog/SEI-CF_CFM.pdf; ComponentLink1Description: http://www.seielect.com/catalog/SEI-CF_CFM.pdf; Supplier Part Number 1: CF14JT10K0CT-ND
footprint RESISTOR
pins: 1, 2

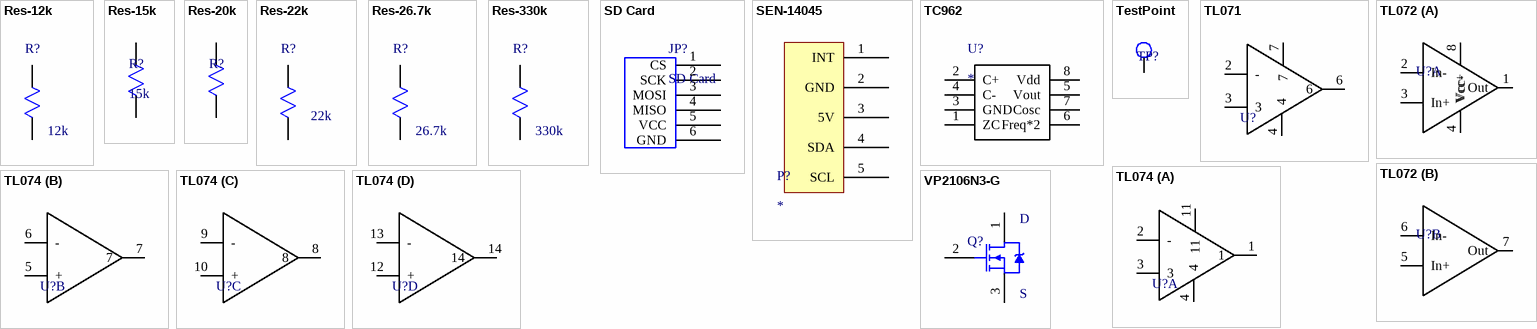
[diagram p1: symbols Res-12k to VP2106N3-G]

## Res-12k
designator R?  Resistance (Ohms): 12k  (hidden comment: *)
Manufacturer: Stackpole Electronics Inc.; Manufacturer Part Number: CF14JT12K0; Tolerance: ±5%; Power (Watts): 0.25W, 1/4W; Temperature Coefficient: 0/ -500ppm/°C; Supplier 1: Digi-Key; RoHS: RoHS Compliant; Category: Resistors; Stock 1: 51984; Pricing 1: 1=0.1, 10=0.04, 25=0.0288, 50=0.022, 100=0.0162, 250=0.01236, 500=0.0099, 1000=0.00729 (USD); Packaging: Cut Tape (CT); Part Status: Active; Composition: Carbon Film; Features: Flame Retardant Coating, Safety; Operating Temperature: -55°C ~ 155°C; Package / Case: Axial; Supplier Device Package: Axial; Size / Dimension: 0.091" Dia x 0.236" L (2.30mm x 6.00mm); Height - Seated (Max): -; Failure Rate: -; ComponentLink1URL: https://www.seielect.com/Catalog/SEI-CF_CFM.pdf; ComponentLink1Description: https://www.seielect.com/Catalog/SEI-CF_CFM.pdf; Supplier Part Number 1: CF14JT12K0CT-ND
footprint RESISTOR
pins: 1, 2

## Res-15k
designator R?, comment 15k
Supplier 1: Arrow
footprint RESISTOR
pins: 1, 2

## Res-20k
designator R?, comment 20k  (value not drawn)
Supplier 1: Arrow
footprint RESISTOR
pins: 1, 2

## Res-22k
designator R?  (value not drawn)
Manufacturer: Stackpole Electronics Inc.; Manufacturer Part Number: CF14JT24K0; Tolerance: ±5%; Power (Watts): 0.25W, 1/4W; Temperature Coefficient: 0/ -500ppm/°C; RoHS: RoHS Compliant; Category: Resistors; Packaging: Cut Tape (CT); Part Status: Active; Composition: Carbon Film; Features: Flame Retardant Coating, Safety; Operating Temperature: -55°C ~ 155°C; Package / Case: Axial; Supplier Device Package: Axial; Size / Dimension: 0.091" Dia x 0.236" L (2.30mm x 6.00mm); Height - Seated (Max): -; Failure Rate: -; ComponentLink1URL: https://www.seielect.com/Catalog/SEI-CF_CFM.pdf; ComponentLink1Description: https://www.seielect.com/Catalog/SEI-CF_CFM.pdf; Supplier 1: Digi-Key
footprint RESISTOR
pins: 1, 2
text: 22k

## Res-26.7k
designator R?  Resistance (Ohms): 26.7k  (hidden comment: *)
Manufacturer: Yageo; Manufacturer Part Number: MFR-25FBF52-26K7; Tolerance: ±1%; Power (Watts): 0.25W, 1/4W; Temperature Coefficient: ±100ppm/°C; Supplier 1: Digi-Key; RoHS: RoHS Compliant; Category: Resistors; Stock 1: 6978; Pricing 1: 1=0.1, 10=0.084, 25=0.058, 100=0.0322, 250=0.02508, 500=0.01994, 1000=0.01415, 2500=0.01222, 5000=0.01093 (USD); Packaging: Bulk; Composition: Metal Film; Features: -; Operating Temperature: -55°C ~ 155°C; Package / Case: Axial; Supplier Device Package: Axial; Size / Dimension: 0.094" Dia x 0.248" L (2.40mm x 6.30mm); Height: -; Number of Terminations: 2; ComponentLink1URL: http://www.yageo.com/documents/recent/Yageo%20LR_MFR_2013.pdf; ComponentLink1Description: http://www.yageo.com/documents/recent/Yageo%20LR_MFR_2013.pdf; Supplier Part Number 1: 26.7KXBK-ND
footprint RESISTOR
pins: 1, 2

## Res-330k
designator R?  Resistance (Ohms): 330k  (hidden comment: *)
Manufacturer: Stackpole Electronics Inc.; Manufacturer Part Number: CF18JT330K; Tolerance: ±5%; Power (Watts): 0.125W, 1/8W; Temperature Coefficient: 0/ -850ppm/°C; Supplier 1: Digi-Key; RoHS: RoHS Compliant; Category: Resistors; Stock 1: 38819; Pricing 1: 1=0.1, 10=0.049, 50=0.0272, 100=0.0201, 250=0.01536, 500=0.01228, 1000=0.00904, 2500=0.00784 (USD); Packaging: Cut Tape (CT); Composition: Carbon Film; Features: Flame Retardant Coating, Safety; Operating Temperature: -55°C ~ 155°C; Package / Case: Axial; Supplier Device Package: Axial; Size / Dimension: 0.067" Dia x 0.130" L (1.70mm x 3.30mm); Height: -; Number of Terminations: 2; ComponentLink1URL: http://www.seielect.com/catalog/SEI-CF_CFM.pdf; ComponentLink1Description: http://www.seielect.com/catalog/SEI-CF_CFM.pdf; Supplier Part Number 1: CF18JT330KCT-ND
footprint RESISTOR
pins: 1, 2

## SD Card
designator JP?
SainSmart Arduino SD Breakout board; Manufacturer: Sullins Connector Solutions; Manufacturer Part Number: PPTC061LFBN-RC; Connector Type: Header; Style: Board to Board; Number of Positions: 6; Number of Positions Loaded: All; Pitch - Mating: 0.100" (2.54mm); Contact Length - Post: 0.126" (3.20mm); Material Flammability Rating: UL94 V-0; Current Rating: 3A; Voltage Rating: 250V; Supplier 1: Digi-Key; RoHS: RoHS Compliant; Category: Connectors, Interconnects; Stock 1: 17259; Pricing 1: 1=0.68, 10=0.528, 25=0.4924, 50=0.4476, 100=0.4028, 250=0.34012, 500=0.3222, 1000=0.2864, 2500=0.23807 (USD); Packaging: Bulk; Part Status: Active; Contact Type: Female Socket; Number of Rows: 1; Row Spacing - Mating: -; Mounting Type: Through Hole; Termination: Solder; Fastening Type: Push-Pull; Contact Finish - Mating: Tin; Contact Finish Thickness - Mating: -; Insulation Color: Black; Insulation Height: 0.335" (8.51mm); Operating Temperature: -40°C ~ 105°C; Contact Finish - Post: Tin; Mated Stacking Heights: -; Ingress Protection: -; Features: -; Applications: -; Insulation Material: Polyester; Contact Shape: Square; Contact Material: Phosphor Bronze; Contact Finish Thickness - Post: -; ComponentLink1URL: http://www.sullinscorp.com/drawings/78_P(N)PxCxxxLFBN-RC,_10492-H.pdf; ComponentLink1Description: http://www.sullinscorp.com/drawings/78_P(N)PxCxxxLFBN-RC,_10492-H.pdf; Supplier Part Number 1: S7004-ND
footprint 6 pin header
pins: 1 CS, 2 SCK, 3 MOSI, 4 MISO, 5 VCC, 6 GND

## SEN-14045
designator P?
Pulse Ox
footprint 5 pin header
pins: 1 INT, 2 GND, 3 5V, 4 SDA, 5 SCL

## TC962
designator U?
Supplier 1: Digi-Key; Supplier Part Number 1: TC962CPA-ND
footprint DIP8
pins: 1 ZC, 2 C+, 3 GND, 4 C-, 5 Vout, 6 Freq*2, 7 Cosc, 8 Vdd

## TestPoint
designator TP?  (value not drawn)
Usage: DNP
footprint TestPoint
pins: 1

## TL071
designator U?  (value not drawn)
Manufacturer: STMicroelectronics; Manufacturer Part Number: TL071CN; Amplifier Type: J-FET; Number of Circuits: 1; Slew Rate: 16 V/µs; Gain Bandwidth Product: 4MHz; Current - Input Bias: 20pA; Voltage - Input Offset: 3mV; Current - Supply: 1.4mA; Current - Output / Channel: 40mA; Voltage - Supply, Single/Dual (±): 6 V ~ 36 V, ±3 V ~ 18 V; Supplier 1: Digi-Key; RoHS: RoHS Compliant; Category: Integrated Circuits (ICs); Stock 1: 0; Pricing 1: 1=0 (USD); Packaging: Tube; Output Type: -; -3db Bandwidth: -; Operating Temperature: 0°C ~ 70°C; Mounting Type: Through Hole; Package / Case: 8-DIP (0.300", 7.62mm); Supplier Device Package: 8-DIP; ComponentLink1URL: http://www.st.com/web/en/resource/technical/document/datasheet/CD00000488.pdf; ComponentLink1Description: http://www.st.com/web/en/resource/technical/document/datasheet/CD00000488.pdf; Supplier Part Number 1: 497-3031-5-ND
footprint DIP8
pins: 2 -, 3, 4, 6, 7

## TL072
designator U?  (value not drawn)
Manufacturer: Texas Instruments; Manufacturer Part Number: TL072IP; Amplifier Type: J-FET; Number of Circuits: 2; Slew Rate: 13 V/µs; Current - Supply: 1.4mA; Voltage - Supply, Single/Dual (±): 7 V ~ 36 V, ±3.5 V ~ 18 V; Supplier 1: Digi-Key; RoHS: RoHS Compliant; Category: Integrated Circuits (ICs); Stock 1: 2537; Pricing 1: 1=0.69, 10=0.607, 100=0.4655, 500=0.368, 1000=0.2944 (USD); Packaging: Tube; Part Status: Active; Output Type: -; -3db Bandwidth: -; Current - Output / Channel: -; Operating Temperature: -40°C ~ 85°C; Mounting Type: Through Hole; Package / Case: 8-DIP (0.300", 7.62mm); Supplier Device Package: 8-PDIP; ComponentLink1URL: http://www.ti.com/lit/ds/symlink/tl071a.pdf; ComponentLink1Description: http://www.ti.com/lit/ds/symlink/tl071a.pdf; Supplier Part Number 1: 296-14997-5-ND
footprint DIP8
part A pins: 1 Out, 2 In-, 3 In+, 4 Vcc-, 8 Vcc+
part B pins: 5 In+, 6 In-, 7 Out

## TL074
designator U?  (value not drawn)
Manufacturer: Texas Instruments; Manufacturer Part Number: TL074CN; Amplifier Type: J-FET; Number of Circuits: 4; Slew Rate: 13 V/µs; Gain Bandwidth Product: 3MHz; Current - Input Bias: 65pA; Voltage - Input Offset: 3mV; Current - Supply: 1.4mA; Voltage - Supply, Single/Dual (±): 7 V ~ 36 V, ±3.5 V ~ 18 V; Supplier 1: Digi-Key; RoHS: RoHS Compliant; Category: Integrated Circuits (ICs); Stock 1: 7481; Pricing 1: 1=0.58, 10=0.508, 100=0.3896, 500=0.308, 1000=0.2464, 2500=0.2233, 5000=0.2079, 10000=0.2002 (USD); Packaging: Tube; Output Type: -; -3db Bandwidth: -; Current - Output / Channel: -; Operating Temperature: 0°C ~ 70°C; Mounting Type: Through Hole; Package / Case: 14-DIP (0.300", 7.62mm); Supplier Device Package: 14-PDIP; ComponentLink1URL: http://www.ti.com/lit/ds/symlink/tl071a.pdf; ComponentLink1Description: http://www.ti.com/lit/ds/symlink/tl071a.pdf; Supplier Part Number 1: 296-1777-5-ND
footprint DIP14
part A pins: 1, 2 -, 3, 4, 11
part B pins: 5 +, 6 -, 7
part C pins: 8, 9 -, 10 +
part D pins: 12 +, 13 -, 14

## VP2106N3-G
designator Q?
Nch MOSFET; Manufacturer: Microchip Technology; Manufacturer Part Number: VP2106N3-G; FET Type: MOSFET P-Channel, Metal Oxide; FET Feature: Standard; Drain to Source Voltage (Vdss): 60V; Current - Continuous Drain (Id) @ 25°C: 250mA (Tj); Rds On (Max) @ Id, Vgs: 12 Ohm @ 500mA, 10V; Vgs(th) (Max) @ Id: 3.5V @ 1mA; Input Capacitance (Ciss) @ Vds: 60pF @ 25V; Power - Max: 1W; Supplier 1: Digi-Key; RoHS: RoHS Compliant; Category: Discrete Semiconductor Products; Stock 1: 3777; Pricing 1: 1=0.48, 25=0.4, 100=0.36 (USD); Packaging: Bulk; Part Status: Active; Gate Charge (Qg) @ Vgs: -; Operating Temperature: -55°C ~ 150°C (TJ); Mounting Type: Through Hole; Package / Case: TO-226-3, TO-92-3 (TO-226AA); Supplier Device Package: TO-92-3; ComponentLink1URL: http://www.microchip.com/mymicrochip/filehandler.aspx?ddocname=en570706; ComponentLink1Description: http://www.microchip.com/mymicrochip/filehandler.aspx?ddocname=en570706; Supplier Part Number 1: VP2106N3-G-ND
footprint TO92 package (Voltage reg + &  - , MOSFET)
pins: 1 D, 2 G, 3 S